# Altium integrated library ICM-20948.IntLib: 1 symbol
Pins are listed as number, name and electrical type; pins without a type are passive.

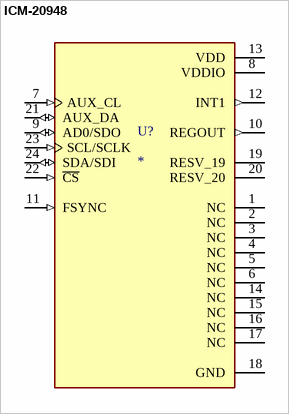
[diagram p0: symbol ICM-20948]

## ICM-20948
designator U?
Accelerometer, Gyroscope, Magnetometer, 9 Axis Sensor IÂ²C, SPI Output; MP: ICM-20948; Value: *; Availability: Unavailable; Price: None; Package: None
footprint QFN40P300X300X105-24N
pins: 1 NC, 2 NC, 3 NC, 4 NC, 5 NC, 6 NC, 7 AUX_CL (in), 8 VDDIO (power), 9 AD0/SDO (io), 10 REGOUT (out), 11 FSYNC (in), 12 INT1 (out), 13 VDD (power), 14 NC, 15 NC, 16 NC, 17 NC, 18 GND (power), 19 RESV_19, 20 RESV_20, 21 AUX_DA (io), 22 ~{CS} (in), 23 SCL/SCLK (in), 24 SDA/SDI (io)